# Altium footprint library Recom RO Series 1W DCDC.PcbLib: 1 footprints
Each footprint in its own frame and in the unit in brackets; x right, y up, seen from the top. Pads: shape width x height; smd on the part's side, far side on the other; paste and mask are expansions set on the pad; w line width, h text height; cw(c..) or ccw(c..) is an arc to the next point about the centre after c.
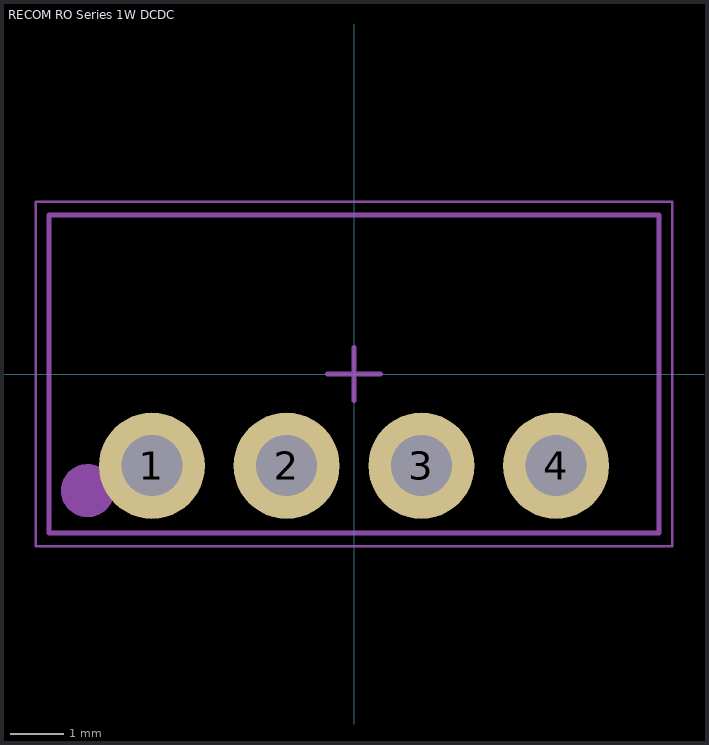
[diagram p0: the footprint, top view; thin cyan lines are the x and y axes]

## RECOM RO Series 1W DCDC [mm] "RO-053.3S"
pads (4):
  round 2 hole 1.15: 1(-3.81,-1.73) 2(-1.27,-1.73) 3(1.27,-1.73) 4(3.81,-1.73)
Mechanical 6:
  text "'.Designator'" at -1.125,-0.3 h0.6
Mechanical 8:
  circle w0.5: c-5.025,-2.2 r0.25
  lines w0.05: -6,-3.25 -6,3.25 6,3.25 6,-3.25 -6,-3.25
Mechanical 13:
  lines w0.1: -5.75,-3 -5.75,3 5.75,3 5.75,-3 -5.75,-3
Mechanical 15:
  lines w0.05: -6,-3.25 6,-3.25 6,3.25 -6,3.25 -6,-3.25
  lines w0.1: -0.5,0 0.5,0 ; 0,-0.5 0,0.5
3D body: height 10, standoff 0, extent -5.75,-3 5.75,3